# Altium footprint library 底板201604281.PcbLib: 21 footprints (part 1 of 2)
Each footprint in its own frame and in the unit in brackets; x right, y up, seen from the top. Pads: shape width x height; smd on the part's side, far side on the other; paste and mask are expansions set on the pad; w line width, h text height; cw(c..) or ccw(c..) is an arc to the next point about the centre after c.
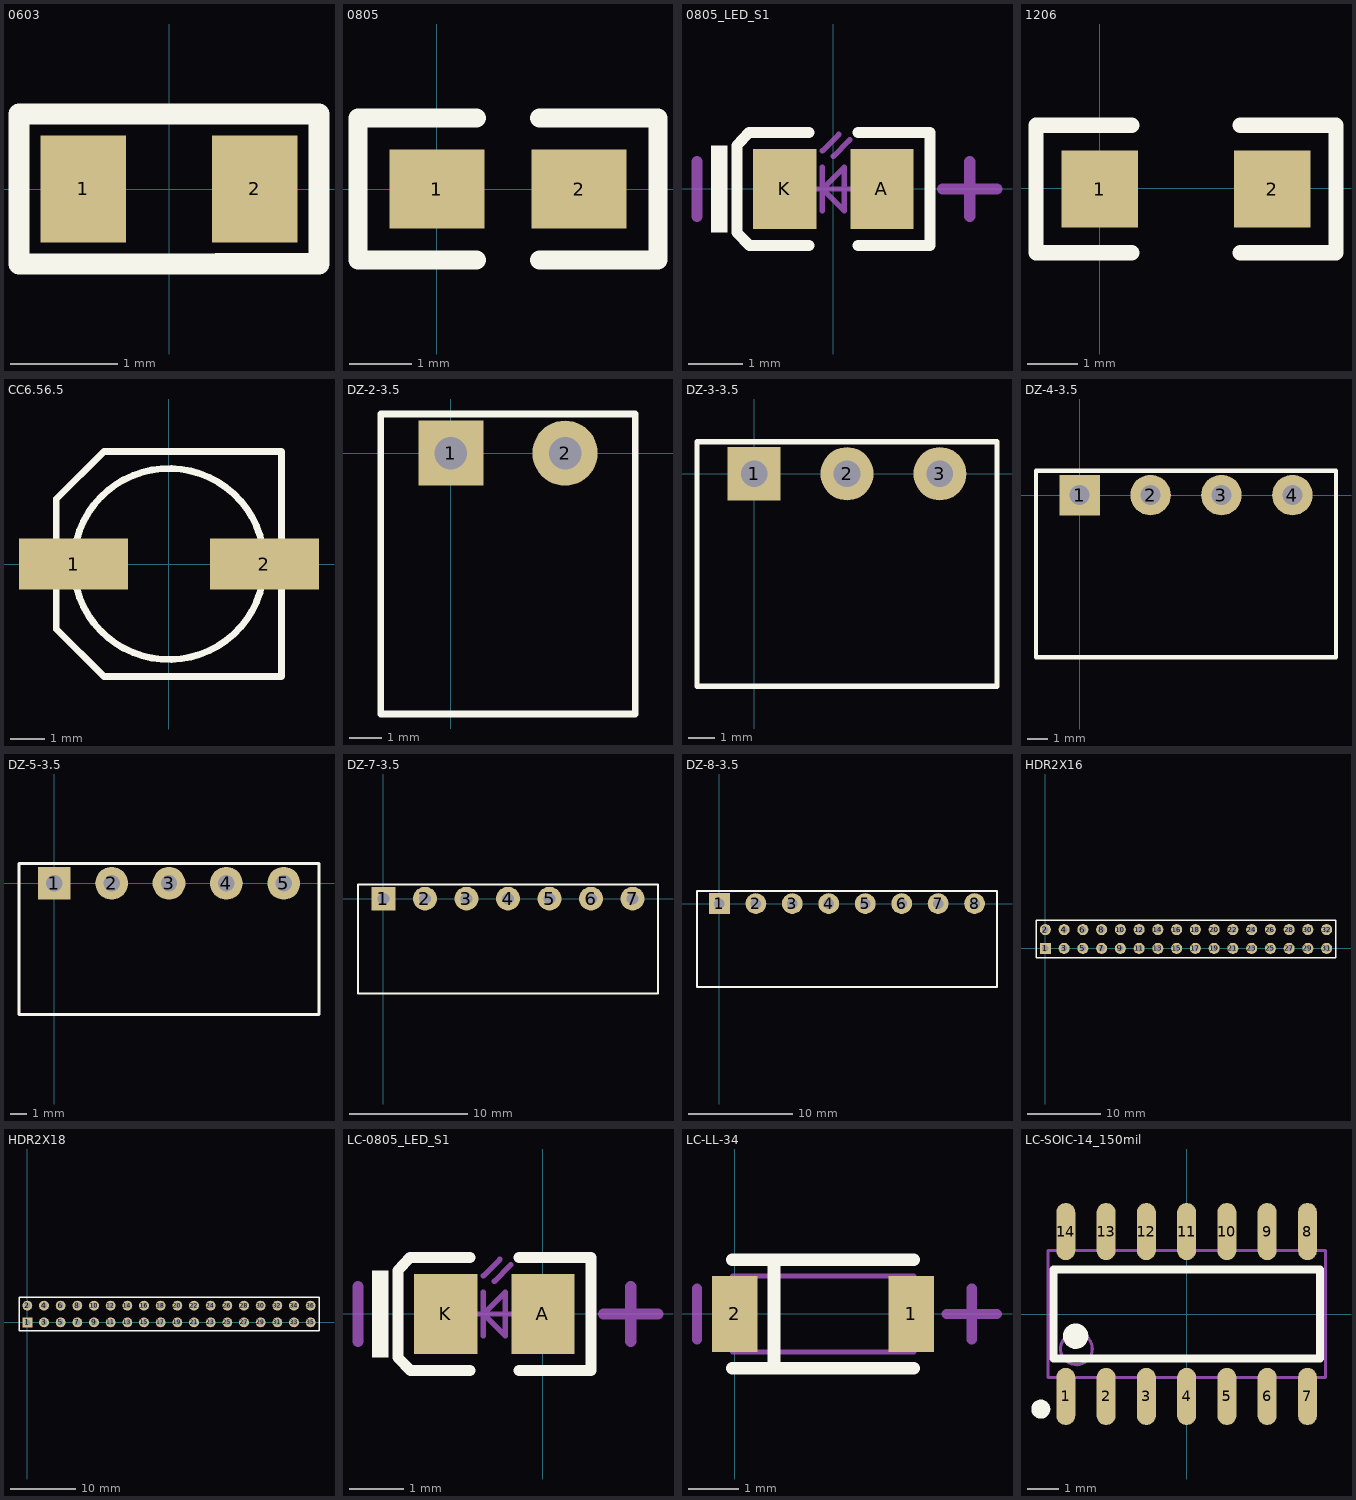
[diagram p0: the footprints below, top view; thin cyan lines are the x and y axes]

## 0603 [mm]
pads (2):
  rect 0.8x1 smd: 1(-0.8,0) 2(0.8,0)
Top Overlay:
  lines w0.2: 0.451,-0.7 -1.4,-0.7 -1.4,0.7 -0.4,0.7 1.4,0.7 ; 0.451,-0.698 1.4,-0.698 1.4,0.695
3D body: height 0.45, standoff 0, extent -0.799,-0.365 0.801,0.435

## 0805 [mil]
height 68.9
pads (2):
  rect 60x50 smd: 1(0,0) 2(90,0)
Top Overlay:
  lines w12: 25,-45 -50,-45 -50,45 25,45 ; 65,-45 140,-45 140,45 65,45

## 0805_LED_S1 [mm]
pads (2):
  rect 1.16x1.47 smd: A(0.89,0) K(-0.89,0)
Top Overlay:
  rectangle: -2.245,-0.8 -1.945,0.8
  lines w0.2: -0.45,-1.035 -1.535,-1.035 -1.77,-0.8 -1.77,0.8 -1.55,1.035 -0.45,1.035 ; 0.45,-1.035 1.77,-1.035 1.77,1.035 0.45,1.035
Mechanical 13:
  lines w0.1: -0.4,0 0.4,0 ; -0.2,-0.4 -0.2,0.4 ; -0.2,0.7 0.1,1 ; 0,0.6 0.3,0.9 ; -0.2,0 0.2,-0.4 0.2,0.4 -0.2,0
Mechanical 15:
  lines w0.203: -2.5,-0.5 -2.5,0.5 ; 2,0 3,0 ; 2.5,-0.5 2.5,0.5
3D body: height 1.1, standoff 0, extent -1.01,-0.625 1.01,0.625

## 1206 [mil]
pads (2):
  rect 60x60 smd: 1(0.22,-0.6) 2(135.22,-0.6)
Top Overlay:
  lines w12: 25.22,-50.6 -49.78,-50.6 -49.78,49.4 25.22,49.4 ; 110.22,-50.6 185.22,-50.6 185.22,49.4 110.22,49.4

## CC6.56.5 [mm]
pads (2):
  rect 3.2x1.5 smd: 1(-2.794,0) 2(2.8,0)
Top Overlay:
  circle w0.2: c0,0 r2.8
  lines w0.2: -3.302,-1.905 -3.302,1.905 -1.905,3.302 3.302,3.302 3.302,-3.302 -1.905,-3.302 -3.302,-1.905

## DZ-2-3.5 [mm]
pads (2):
  rect 2x2 hole 1: 1(0,0)
  round 2 hole 1: 2(3.5,0)
Top Overlay:
  lines w0.2: -2.15,-8 -2.15,1.2 0,1.2 3.5,1.2 5.65,1.2 5.65,-8 -2.15,-8

## DZ-3-3.5 [mm]
pads (3):
  rect 2x2 hole 1: 1(0,0)
  round 2 hole 1: 2(3.5,0) 3(7,0)
Top Overlay:
  lines w0.2: 5.65,1.2 3.5,1.2 ; 3.5,1.2 0,1.2 -2.15,1.2 -2.15,-8 5.65,-8 9.15,-8 9.15,1.2 7,1.2 3.5,1.2

## DZ-4-3.5 [mm]
pads (4):
  rect 2x2 hole 1: 1(0,0)
  round 2 hole 1: 2(3.5,0) 3(7,0) 4(10.5,0)
Top Overlay:
  lines w0.2: 5.65,1.2 3.5,1.2 ; 3.5,1.2 7,1.2 ; 3.5,1.2 0,1.2 -2.15,1.2 -2.15,-8 5.65,-8 9.15,-8 12.65,-8 12.65,1.2 10.5,1.2 7,1.2 ; 7,1.2 9.15,1.2 7,1.2

## DZ-5-3.5 [mm]
pads (5):
  rect 2x2 hole 1: 1(0,0)
  round 2 hole 1: 2(3.5,0) 3(7,0) 4(10.5,0) 5(14,0)
Top Overlay:
  lines w0.2: 5.65,1.2 3.5,1.2 ; 3.5,1.2 0,1.2 -2.15,1.2 -2.15,-8 5.65,-8 9.15,-8 ; 3.5,1.2 7,1.2 ; 7,1.2 10.5,1.2 ; 7,1.2 9.15,1.2 7,1.2 ; 9.15,-8 12.65,-8 ; 9.15,-8 12.65,-8 ; 10.5,1.2 12.65,1.2 ; 10.5,1.2 12.65,1.2 ; 10.5,1.2 12.65,1.2 ; 10.5,1.2 14,1.2 16.15,1.2 16.15,-8 12.65,-8

## DZ-7-3.5 [mm]
pads (7):
  rect 2x2 hole 1: 1(0,0)
  round 2 hole 1: 2(3.5,0) 3(7,0) 4(10.5,0) 5(14,0) 6(17.5,0) 7(21,0)
Top Overlay:
  lines w0.2: 5.65,1.2 3.5,1.2 ; 3.5,1.2 0,1.2 -2.15,1.2 -2.15,-8 5.65,-8 9.15,-8 ; 3.5,1.2 7,1.2 ; 7,1.2 10.5,1.2 ; 7,1.2 9.15,1.2 7,1.2 ; 9.15,-8 12.65,-8 ; 9.15,-8 12.65,-8 ; 10.5,1.2 12.65,1.2 ; 10.5,1.2 12.65,1.2 ; 10.5,1.2 12.65,1.2 ; 10.5,1.2 14,1.2 ; 12.65,-8 16.15,-8 ; 14,1.2 16.15,1.2 ; 14,1.2 16.15,1.2 ; 14,1.2 17.5,1.2 ; 14,1.2 16.15,1.2 ; 16.15,-8 19.65,-8 ; 16.15,-8 19.65,-8 ; 17.5,1.2 21,1.2 23.15,1.2 23.15,-8 19.65,-8 ; 17.5,1.2 19.65,1.2 ; 17.5,1.2 19.65,1.2 ; 17.5,1.2 19.65,1.2

## DZ-8-3.5 [mm]
pads (8):
  rect 2x2 hole 1: 1(0,0)
  round 2 hole 1: 2(3.5,0) 3(7,0) 4(10.5,0) 5(14,0) 6(17.5,0) 7(21,0) 8(24.5,0)
Top Overlay:
  lines w0.2: 5.65,1.2 3.5,1.2 ; 3.5,1.2 0,1.2 -2.15,1.2 -2.15,-8 5.65,-8 9.15,-8 ; 3.5,1.2 7,1.2 ; 7,1.2 10.5,1.2 ; 7,1.2 9.15,1.2 7,1.2 ; 9.15,-8 12.65,-8 ; 9.15,-8 12.65,-8 ; 10.5,1.2 12.65,1.2 ; 10.5,1.2 12.65,1.2 ; 10.5,1.2 12.65,1.2 ; 10.5,1.2 14,1.2 ; 12.65,-8 16.15,-8 ; 14,1.2 16.15,1.2 ; 14,1.2 16.15,1.2 ; 14,1.2 17.5,1.2 ; 14,1.2 16.15,1.2 ; 16.15,-8 19.65,-8 ; 16.15,-8 19.65,-8 ; 17.5,1.2 21,1.2 ; 17.5,1.2 19.65,1.2 ; 17.5,1.2 19.65,1.2 ; 17.5,1.2 19.65,1.2 ; 19.65,-8 23.15,-8 ; 19.65,-8 23.15,-8 ; 19.65,-8 23.15,-8 ; 21,1.2 23.15,1.2 ; 21,1.2 23.15,1.2 ; 21,1.2 23.15,1.2 ; 21,1.2 23.15,1.2 ; 21,1.2 24.5,1.2 26.65,1.2 26.65,-8 23.15,-8

## HDR2X16 [mm] "C"
pads (32):
  rect 1.5x1.5 hole 0.9: 1(0,0)
  round 1.5 hole 0.9: 2(0,2.54) 3(2.54,0) 4(2.54,2.54) 5(5.08,0) 6(5.08,2.54) 7(7.62,0) 8(7.62,2.54) 9(10.16,0) 10(10.16,2.54) 11(12.7,0) 12(12.7,2.54) 13(15.24,0) 14(15.24,2.54) 15(17.78,0) 16(17.78,2.54) 17(20.32,0) 18(20.32,2.54) 19(22.86,0) 20(22.86,2.54) 21(25.4,0) 22(25.4,2.54) 23(27.94,0) 24(27.94,2.54) 25(30.48,0) 26(30.48,2.54) 27(33.02,0) 28(33.02,2.54) 29(35.56,0) 30(35.56,2.54) 31(38.1,0) 32(38.1,2.54)
Top Overlay:
  lines w0.2: -1.27,-1.27 39.37,-1.27 39.37,3.81 -1.27,3.81 -1.27,-1.27

## HDR2X18 [mm] "Connector"
pads (36):
  rect 1.5x1.5 hole 0.9: 1(0,0)
  round 1.5 hole 0.9: 2(0,2.54) 3(2.54,0) 4(2.54,2.54) 5(5.08,0) 6(5.08,2.54) 7(7.62,0) 8(7.62,2.54) 9(10.16,0) 10(10.16,2.54) 11(12.7,0) 12(12.7,2.54) 13(15.24,0) 14(15.24,2.54) 15(17.78,0) 16(17.78,2.54) 17(20.32,0) 18(20.32,2.54) 19(22.86,0) 20(22.86,2.54) 21(25.4,0) 22(25.4,2.54) 23(27.94,0) 24(27.94,2.54) 25(30.48,0) 26(30.48,2.54) 27(33.02,0) 28(33.02,2.54) 29(35.56,0) 30(35.56,2.54) 31(38.1,0) 32(38.1,2.54) 33(40.64,0) 34(40.64,2.54) 35(43.18,0) 36(43.18,2.54)
Top Overlay:
  lines w0.2: -1.27,-1.27 44.45,-1.27 44.45,3.81 -1.27,3.81 -1.27,-1.27

## LC-0805_LED_S1 [mm]
pads (2):
  rect 1.16x1.47 smd: A(0.001,0) K(-1.779,0)
Top Overlay:
  rectangle: -3.134,-0.8 -2.834,0.8
  lines w0.2: -1.339,-1.035 -2.424,-1.035 -2.659,-0.8 -2.659,0.8 -2.439,1.035 -1.339,1.035 ; -0.439,-1.035 0.881,-1.035 0.881,1.035 -0.439,1.035
Mechanical 13:
  lines w0.1: -1.289,0 -0.489,0 ; -1.089,-0.4 -1.089,0.4 ; -1.089,0.7 -0.789,1 ; -0.889,0.6 -0.589,0.9 ; -1.089,0 -0.689,-0.4 -0.689,0.4 -1.089,0
Mechanical 15:
  lines w0.203: -3.389,-0.5 -3.389,0.5 ; 1.111,0 2.111,0 ; 1.611,-0.5 1.611,0.5
3D body: height 1.1, standoff 0, extent -1.899,-0.625 0.121,0.625

## LC-LL-34 [mm]
pads (2):
  rect 0.9x1.5 smd: 1(3.5,0) 2(0,0)
Top Overlay:
  lines w0.254: -0.05,-1.075 3.55,-1.075 ; -0.05,1.075 3.55,1.075 ; 0.775,-1.075 0.775,1.075
Mechanical 13:
  lines w0.1: -0.05,-0.75 3.55,-0.75 3.55,0.75 -0.05,0.75 -0.05,-0.75
Mechanical 15:
  lines w0.203: -0.75,-0.5 -0.75,0.5 ; 4.2,0 5.2,0 ; 4.7,-0.5 4.7,0.5

## LC-SOIC-14_150mil [mm]
pads (14):
  oval 0.6x1.8 smd: 1(-3.81,-2.6) 2(-2.54,-2.6) 3(-1.27,-2.6) 4(0,-2.6) 5(1.27,-2.6) 6(2.54,-2.6) 7(3.81,-2.6) 8(3.81,2.6) 9(2.54,2.6) 10(1.27,2.6) 11(0,2.6) 12(-1.27,2.6) 13(-2.54,2.6) 14(-3.81,2.6)
Top Overlay:
  circle w0.3: c-4.6,-3 r0.15
  circle w0.4: c-3.5,-0.7 r0.2
  lines w0.254: -4.2,-1.4 4.2,-1.4 4.2,1.4 -4.2,1.4 -4.2,-1.4
Mechanical 13:
  circle w0.1: c-3.475,-1.1 r0.5
  lines w0.1: -4.375,-2 4.375,-2 4.375,2 -4.375,2 -4.375,-2